# Altium schematic symbol library S1BB.SchLib: 1 symbol
Pins are listed as number, name and electrical type; pins without a type are passive.

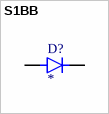
[diagram p0: symbol S1BB]

## S1BB
designator D?
MP: S1BB; MF: {'manufacturer': u'Taiwan Semiconductor'}; Availability: Unavailable; Package: None; Value: *; Price: None
footprint DIOM4336X265N
pins: A, C K